# Altium schematic symbol library Schlib1.SchLib: 13 symbols
Pins are listed as number, name and electrical type; pins without a type are passive.

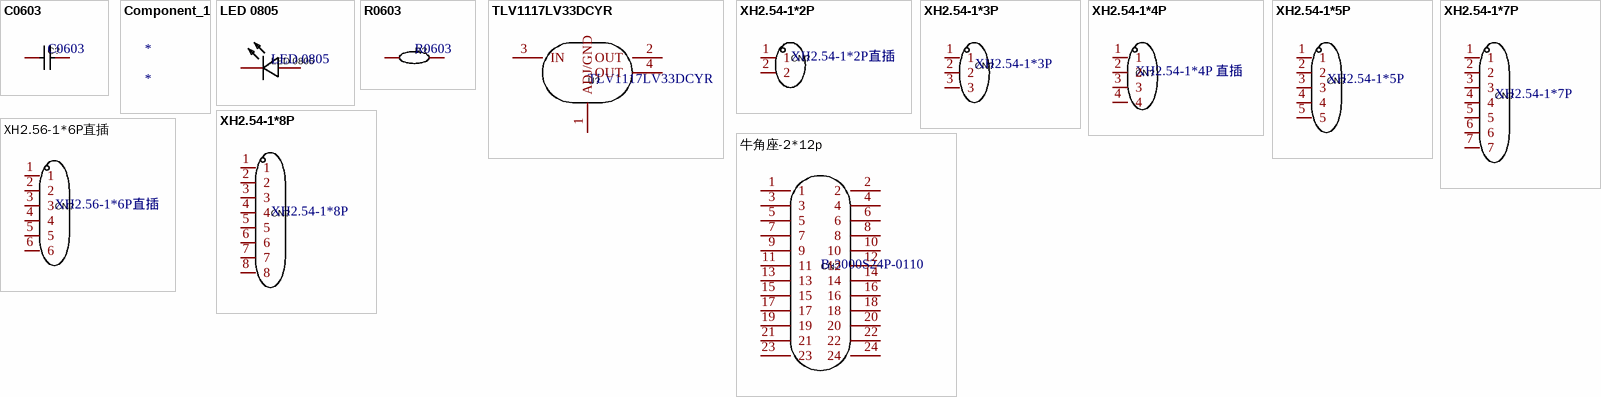
[diagram p0: symbols C0603 to 牛角座-2*12p]

## C0603
designator C?
X7R/X5R，额定电压>=25,精度=10%; Manufacturer: FH(风华); Name: 100nF; Symbol: 0805B104K500NT; Add into BOM: yes; Value: 100nF; Tolerance: ±10%; Voltage Rated: 50V; Temperature Coefficient: X7R; Device: 0805B104K500NT; LCSC Part Name: 100nF ±10% 50V; Supplier Part: C38141; Manufacturer Part: 0805B104K500NT; Supplier Footprint: 0805; JLCPCB Part Class: Extended Part; Datasheet: https://atta.szlcsc.com/upload/public/pdf/source/20170923/C38141_1506149447419988747.pdf; Supplier: LCSC; Convert to PCB: yes
3D model C0805_L2.0-W1.3-H1.3
footprint C0603
pins: 1, 2

## Component_1
designator *

## LED 0805
designator LED 0805
LED 0805-NCD0805R1; Manufacturer: 国星光电; Symbol: FC-2012HRK-620D; Add into BOM: yes; Illumination Color: 红色; Luminous Intensity (IF=20mA): 67~195mcd; Dominant Wavelength / Coordinate rank: 615~630nm; Name: NCD0805R1; Device: NCD0805R1; LCSC Part Name: 红灯 0805 贴片LED; Supplier Part: C84256; Manufacturer Part: NCD0805R1; Supplier Footprint: 0805; JLCPCB Part Class: Basic Part; Datasheet: https://atta.szlcsc.com/upload/public/pdf/source/20200820/C84256_F0A75A43B3EAD75808600A0514C76B99.pdf; Supplier: LCSC; Convert to PCB: yes; Mounting Type: 表面贴装
3D model LED0805-RD_RED
footprint LED0805-RD_RED
pins: 1 -, 2 +

## R0603
designator R?
Manufacturer: YAGEO(国巨); Name: 68Ω; Symbol: RC0805FR-0768RL; Add into BOM: yes; Value: 68Ω; Tolerance: ±1%; Power(Watts): 125mW; Temperature Coefficient: ±100ppm/℃; Overload Voltage (Max): 150V; Device: RC0805FR-0768RL; LCSC Part Name: 68Ω ±1% 125mW; Supplier Part: C137498; Manufacturer Part: RC0805FR-0768RL; Supplier Footprint: 0805; JLCPCB Part Class: Extended Part; Datasheet: https://atta.szlcsc.com/upload/public/pdf/source/20171106/C137498_15099604779991093655.pdf; Supplier: LCSC; Convert to PCB: yes; Type: 厚膜电阻; Operating Temperature Range: -55℃~+125℃
3D model R0805_L2.0-W1.3-H0.6
footprint R0603
pins: 1, 2

## TLV1117LV33DCYR
designator U?
C15578 // SOT-223// TI; Manufacturer: TI(德州仪器); Add into BOM: yes; Output Type: 固定; Output Polarity: 正; Number of Outputs: 1; Maximum Input Voltage: 5.5V; Output Voltage: 3.3V; Dropout Voltage: 1.3V@(800mA); Output Current: 1A; Power Supply Rejection Ratio (PSRR): 75dB@(120Hz); Name: TLV1117LV33DCYR; Symbol: TLV1117LV33DCYR; Device: TLV1117LV33DCYR; LCSC Part Name: 正 Vin=5.5V Vout=3.3V 1A 75dB@(120Hz); Supplier Part: C15578; Manufacturer Part: TLV1117LV33DCYR; Supplier Footprint: SOT-223; JLCPCB Part Class: Extended Part; Datasheet: https://atta.szlcsc.com/upload/public/pdf/source/20140704/1457707105729.pdf; Supplier: LCSC; Convert to PCB: yes
3D model SOT-223-4P_L6.5-W3.5-H1.6-LS7.0-P2.30
footprint 1117LV-SOT-223_L6.7-W3.5-P2.30-BR
pins: 1 ADJ/GND, 2 OUT, 3 IN, 4 OUT

## XH2.54-1*2P
designator CN?, comment XH2.54-1*2P直插
Manufacturer: HCTL(华灿天禄); Name: HC-XH-2A-G; Add into BOM: yes; Reference Series: XH; Pitch: 2.54mm; Pins Structure: 1x2P; Number of PINs Per Row: 2; Gender: 公型插针; Current Rating (Max): 3A; Symbol: HC-XH-2A-G; Device: HC-XH-2A-G; LCSC Part Name: XH 2.5mm 1x2P 直插 白色耐温; Supplier Part: C5341201; Manufacturer Part: HC-XH-2A-G; Supplier Footprint: 直插,P=2.5mm; JLCPCB Part Class: Extended Part; Datasheet: https://atta.szlcsc.com/upload/public/pdf/source/20230105/4FFD2EFD3DA44AA828171A44400F3EDE.pdf; Supplier: LCSC; Convert to PCB: yes; Number of Rows: 1; Row Spacing: 2.54mm; Mounting Style: 直插; Operating Temperature Range: -25℃~+85℃
3D model CONN-TH_2P-P2.50_HC-XH-2A-G
footprint XH2.54-1*2P 直插CONN-TH_2P-P2.50_HC-XH-2A-G
pins: 1, 2

## XH2.54-1*3P
designator CN?
直插; Manufacturer: HCTL(华灿天禄); Name: HC-XH-3A-G; Add into BOM: yes; Reference Series: XH; Pitch: 2.54mm; Pins Structure: 1x3P; Number of PINs Per Row: 3; Gender: 公型插针; Current Rating (Max): 3A; Symbol: HC-XH-3A-G; Device: HC-XH-3A-G; LCSC Part Name: XH 2.54mm 1x3P 直插; Supplier Part: C5341202; Manufacturer Part: HC-XH-3A-G; Supplier Footprint: 插件,P=2.5mm; JLCPCB Part Class: Extended Part; Datasheet: https://atta.szlcsc.com/upload/public/pdf/source/20230105/4FFD2EFD3DA44AA828171A44400F3EDE.pdf; Supplier: LCSC; Convert to PCB: yes; Number of Rows: 1; Row Spacing: 2.54mm; Mounting Style: 直插; Operating Temperature Range: -25℃~+85℃; link: https://atta.szlcsc.com/upload/public/pdf/source/20230105/4FFD2EFD3DA44AA828171A44400F3EDE.pdf
3D model CONN-TH_3P-P2.50_HC-XH-3A-G
footprint XH2.54-1*3P-CONN-TH_3P-P2.50_HC-XH-3A-G
pins: 1, 2, 3

## XH2.54-1*4P
designator CN?, comment XH2.54-1*4P 直插
XH-1*4P-2.54直插; Manufacturer: HCTL(华灿天禄); Name: XH-4AW; Symbol: XH-4AW_C2908613; Add into BOM: yes; Device: XH-4AW; LCSC Part Name: 4P 2.54mm; Supplier Part: C2908613; Manufacturer Part: XH-4AW; Supplier Footprint: 插件,P=2.54mm; JLCPCB Part Class: Extended Part; Datasheet: https://atta.szlcsc.com/upload/public/pdf/source/20211021/ACA2D54D99493880102FCACAC8DAABA8.pdf; Supplier: LCSC; Convert to PCB: yes
3D model CONN-TH_XH-4AW
footprint XH2.54-1*4P-直插CONN-TH_4P-P2.50_HC-XH-4A-G
pins: 1, 2, 3, 4

## XH2.54-1*5P
designator CN?
XH2.54-1*5P//C5341204//直插; Manufacturer: HCTL(华灿天禄); Name: HC-XH-5A-G; Add into BOM: yes; Reference Series: XH; Pitch: 2.54mm; Pins Structure: 1x5P; Number of PINs Per Row: 5; Gender: 公型插针; Current Rating (Max): 3A; Symbol: HC-XH-5A-G; Device: HC-XH-5A-G; LCSC Part Name: 2.5mm 1x5P 直插; Supplier Part: C5341204; Manufacturer Part: HC-XH-5A-G; Supplier Footprint: 直插,P=2.5mm; Datasheet: https://atta.szlcsc.com/upload/public/pdf/source/20230105/4FFD2EFD3DA44AA828171A44400F3EDE.pdf; Supplier: LCSC; Convert to PCB: yes; Number of Rows: 1; Row Spacing: 2.54mm; Mounting Style: 直插; Operating Temperature Range: -25℃~+85℃
3D model CONN-TH_5P-P2.50_HC-XH-5A-G
footprint XH2.54-1*5P-CONN-TH_5P-P2.50_HC-XH-5A-G
pins: 1, 2, 3, 4, 5

## XH2.54-1*7P
designator CN?
XH2.54-1*7P //直插C5341206; Manufacturer: HCTL(华灿天禄); Name: HC-XH-7A-G; Add into BOM: yes; Reference Series: XH; Pitch: 2.54mm; Pins Structure: 1x7P; Number of PINs Per Row: 7; Gender: 公型插针; Current Rating (Max): 3A; Symbol: HC-XH-7A-G; Device: HC-XH-7A-G; LCSC Part Name: 2.5mm 1x7P 直插; Supplier Part: C5341206; Manufacturer Part: HC-XH-7A-G; Supplier Footprint: 直插,P=2.5mm; Datasheet: https://atta.szlcsc.com/upload/public/pdf/source/20230105/4FFD2EFD3DA44AA828171A44400F3EDE.pdf; Supplier: LCSC; Convert to PCB: yes; Number of Rows: 1; Row Spacing: 2.54mm; Mounting Style: 直插; Operating Temperature Range: -25℃~+85℃
3D model CONN-TH_7P-P2.50_HC-XH-7A-G
footprint XH2.54-1*7P-CONN-TH_7P-P2.50_HC-XH-7A-G
pins: 1, 2, 3, 4, 5, 6, 7

## XH2.54-1*8P
designator CN?
XH2.54-1*8P//直插//C5341207; Manufacturer: HCTL(华灿天禄); Name: HC-XH-8A-G; Add into BOM: yes; Reference Series: XH; Pitch: 2.54mm; Pins Structure: 1x8P; Number of PINs Per Row: 8; Gender: 公型插针; Current Rating (Max): 3A; Symbol: HC-XH-8A-G; Device: HC-XH-8A-G; LCSC Part Name: 2.5mm 1x8P 直插; Supplier Part: C5341207; Manufacturer Part: HC-XH-8A-G; Supplier Footprint: 直插,P=2.5mm; JLCPCB Part Class: Extended Part; Datasheet: https://atta.szlcsc.com/upload/public/pdf/source/20230105/4FFD2EFD3DA44AA828171A44400F3EDE.pdf; Supplier: LCSC; Convert to PCB: yes; Number of Rows: 1; Row Spacing: 2.54mm; Mounting Style: 直插; Operating Temperature Range: -25℃~+85℃
3D model CONN-TH_8P-P2.50_HC-XH-8A-G
footprint XH2.54-1*8P-CONN-TH_8P-P2.50_HC-XH-8A-G
pins: 1, 2, 3, 4, 5, 6, 7, 8

## XH2.56-1*6P直插
designator CN?
Manufacturer: HCTL(华灿天禄); Name: HC-XH-6AW-G; Add into BOM: yes; Reference Series: XH; Pitch: 2.54mm; Pins Structure: 1x6P; Number of PINs Per Row: 6; Gender: 公型插针; Current Rating (Max): 3A; Symbol: HC-XH-6AW-G; Device: HC-XH-6AW-G; LCSC Part Name: XH 2.54mm 1x6P 弯插; Supplier Part: C5341212; Manufacturer Part: HC-XH-6AW-G; Supplier Footprint: 弯插,P=2.5mm; Datasheet: https://atta.szlcsc.com/upload/public/pdf/source/20230105/4FFD2EFD3DA44AA828171A44400F3EDE.pdf; Supplier: LCSC; Convert to PCB: yes; Number of Rows: 1; Row Spacing: 2.54mm; Mounting Style: 弯插; Operating Temperature Range: -25℃~+85℃
3D model CONN-TH_6P-P2.50_HC-XH-6AW-G
footprint H2.54-1*6P-直插CONN-TH_6P-P2.50_HC-XH-6A-G
pins: 1, 2, 3, 4, 5, 6

## 牛角座-2*12p
designator CN?, comment B-3000S24P-0110
牛角座-2*12p 直插 C132440; Manufacturer: Ckmtw(灿科盟); Symbol: 300S-24P; Add into BOM: yes; Connector Type: 简牛座; Pin Number in each Row: 12; Pitch: 2.54mm; Name: B-3000S24P-0110; Device: B-3000S24P-0110; LCSC Part Name: 每排P数:12 排数:2 2.54mm 300系列; Supplier Part: C132440; Manufacturer Part: B-3000S24P-0110; Supplier Footprint: 插件,P=2.54mm; JLCPCB Part Class: Extended Part; Datasheet: https://atta.szlcsc.com/upload/public/pdf/source/20180105/C132440_15151572266231234450.pdf; Supplier: LCSC; Convert to PCB: yes; Number of Rows: 2; Row Spacing: 2.54mm; Holder Type: 直插; Contact Material: 黄铜; Contact Plating: 金
3D model CONN-TH_300S-24P
footprint 牛角座2*12P-CONN-TH_300S-24P
pins: 1, 2, 3, 4, 5, 6, 7, 8, 9, 10, 11, 12, 13, 14, 15, 16, 17, 18, 19, 20, 21, 22, 23, 24